# Altium integrated library 74LVC2G17GW_125.IntLib: 1 symbol
Pins are listed as number, name and electrical type; pins without a type are passive.

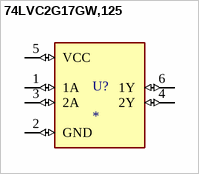
[diagram p0: symbol 74LVC2G17GW,125]

## 74LVC2G17GW,125
designator U?
Buffer, Non-Inverting 2 Element 1 Bit per Element Push-Pull Output 6-TSSOP; MF: Nexperia USA; MP: 74LVC2G17GW,125; SnapEDA_Link: https://www.snapeda.com/parts/74LVC2G17GW,125/Nexperia/view-part/?ref=snap; Package: TSSOP6-6 Nexperia USA Inc.; Value: *; Check_prices: https://www.snapeda.com/parts/74LVC2G17GW,125/Nexperia/view-part/?ref=eda
footprint SOT363_INFINEON
pins: 1 1A (io), 2 GND (io), 3 2A (io), 4 2Y (io), 5 VCC (io), 6 1Y (io)